# Altium footprint library STM Custom Shield for UAV.PcbLib: 9 footprints
Each footprint in its own frame and in the unit in brackets; x right, y up, seen from the top. Pads: shape width x height; smd on the part's side, far side on the other; paste and mask are expansions set on the pad; w line width, h text height; cw(c..) or ccw(c..) is an arc to the next point about the centre after c.
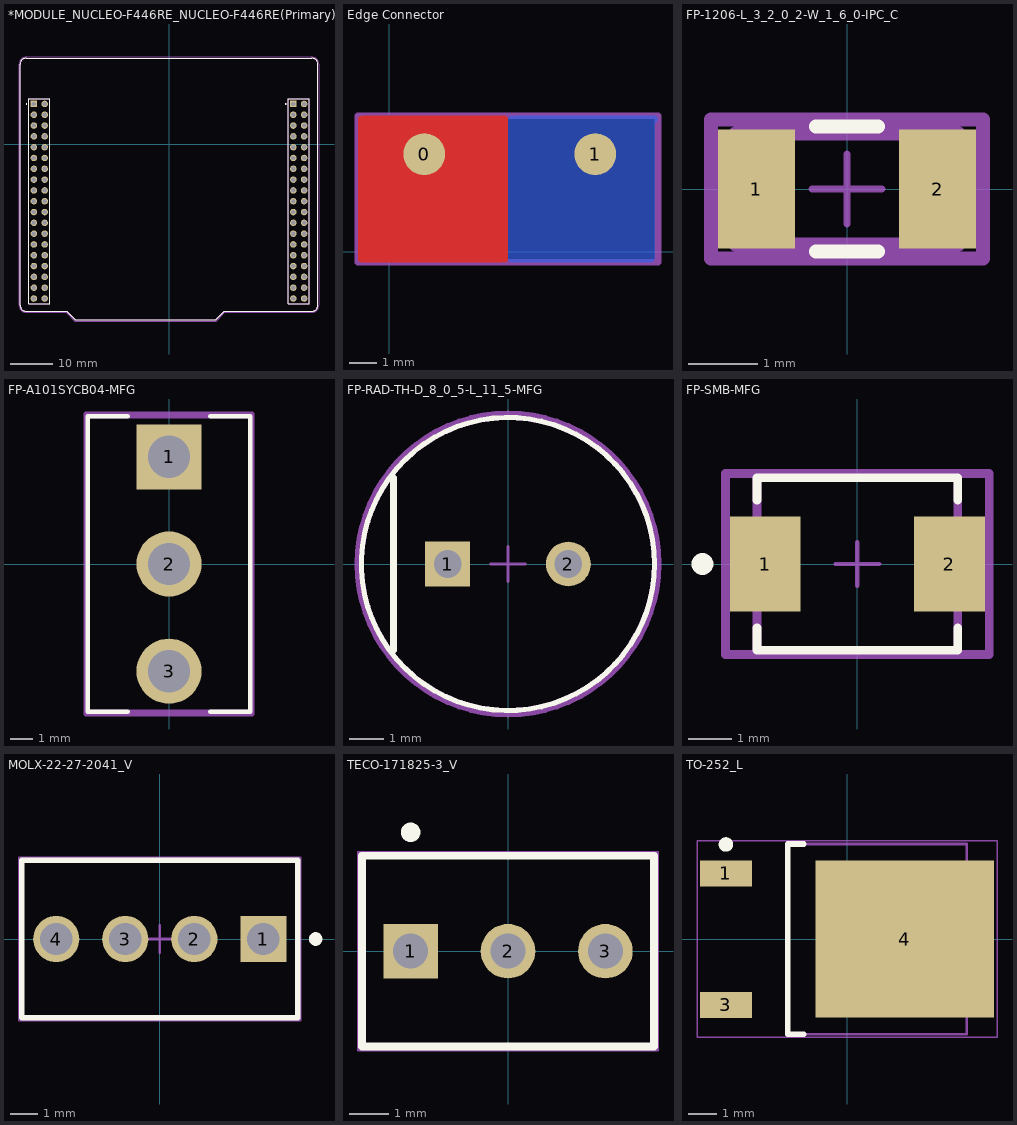
[diagram p0: the footprints below, top view; thin cyan lines are the x and y axes]

## *MODULE_NUCLEO-F446RE_NUCLEO-F446RE(Primary) [mm]
pads (76):
  rect 1.53x1.53 hole 1.02: CN7_1(-31.75,9.51) CN10_1(29.21,9.51)
  round 1.53 hole 1.02: CN7_2(-29.21,9.51) CN7_3(-31.75,6.97) CN7_4(-29.21,6.97) CN7_5(-31.75,4.43) CN7_6(-29.21,4.43) CN7_7(-31.75,1.89) CN7_8(-29.21,1.89) CN7_9(-31.75,-0.65) CN7_10(-29.21,-0.65) CN7_11(-31.75,-3.19) CN7_12(-29.21,-3.19) CN7_13(-31.75,-5.73) CN7_14(-29.21,-5.73) CN7_15(-31.75,-8.27) CN7_16(-29.21,-8.27) CN7_17(-31.75,-10.81) CN7_18(-29.21,-10.81) CN7_19(-31.75,-13.35) CN7_20(-29.21,-13.35) CN7_21(-31.75,-15.89) CN7_22(-29.21,-15.89) CN7_23(-31.75,-18.43) CN7_24(-29.21,-18.43) CN7_25(-31.75,-20.97) CN7_26(-29.21,-20.97) CN7_27(-31.75,-23.51) CN7_28(-29.21,-23.51) CN7_29(-31.75,-26.05) CN7_30(-29.21,-26.05) CN7_31(-31.75,-28.59) CN7_32(-29.21,-28.59) CN7_33(-31.75,-31.13) CN7_34(-29.21,-31.13) CN7_35(-31.75,-33.67) CN7_36(-29.21,-33.67) CN7_37(-31.75,-36.21) CN7_38(-29.21,-36.21) CN10_2(31.75,9.51) CN10_3(29.21,6.97) CN10_4(31.75,6.97) CN10_5(29.21,4.43) CN10_6(31.75,4.43) CN10_7(29.21,1.89) CN10_8(31.75,1.89) CN10_9(29.21,-0.65) CN10_10(31.75,-0.65) CN10_11(29.21,-3.19) CN10_12(31.75,-3.19) CN10_13(29.21,-5.73) CN10_14(31.75,-5.73) CN10_15(29.21,-8.27) CN10_16(31.75,-8.27) CN10_17(29.21,-10.81) CN10_18(31.75,-10.81) CN10_19(29.21,-13.35) CN10_20(31.75,-13.35) CN10_21(29.21,-15.89) CN10_22(31.75,-15.89) CN10_23(29.21,-18.43) CN10_24(31.75,-18.43) CN10_25(29.21,-20.97) CN10_26(31.75,-20.97) CN10_27(29.21,-23.51) CN10_28(31.75,-23.51) CN10_29(29.21,-26.05) CN10_30(31.75,-26.05) CN10_31(29.21,-28.59) CN10_32(31.75,-28.59) CN10_33(29.21,-31.13) CN10_34(31.75,-31.13) CN10_35(29.21,-33.67) CN10_36(31.75,-33.67) CN10_37(29.21,-36.21) CN10_38(31.75,-36.21)
Top Overlay:
  circle w0.2: c-33.5,9.51 r0.1
  circle w0.2: c27.46,9.51 r0.1
  lines w0.127: -35,18.79 -35,-37.75 ccw(c-33.5,-37.75) -33.5,-39.25 -24,-39.25 -22,-41.25 11,-41.25 13,-39.25 33.5,-39.25 ccw(c33.5,-37.75) 35,-37.75 35,18.79 ; -35,18.795 cw(c-33.5,18.795) -33.5,20.295 33.5,20.295 cw(c33.5,18.795) 35,18.795 ; -32.98,-37.48 -32.98,10.78 -27.98,10.78 -27.98,-37.48 -32.98,-37.48 ; 27.98,-37.48 27.98,10.78 32.98,10.78 32.98,-37.48 27.98,-37.48
Mechanical 4:
  circle w0.2: c-33.5,9.51 r0.1
  circle w0.2: c27.46,9.51 r0.1
  circle w0.2: c-33.5,9.51 r0.1
  circle w0.2: c27.46,9.51 r0.1
  lines w0.127: -35,-37.75 ccw(c-33.5,-37.75) -33.5,-39.25 ; -35,-37.75 ccw(c-33.5,-37.75) -33.5,-39.25 ; -35,-37.75 -35,18.79 -35,-37.75 ; -33.5,-39.25 -24,-39.25 ; -33.5,-39.25 -24,-39.25 ; -33.5,20.295 ccw(c-33.5,18.795) -35,18.795 cw(c-33.5,18.795) -33.5,20.295 ; -33.5,20.295 33.5,20.295 ; -33.5,20.295 33.5,20.295 ; -32.98,-37.48 -32.98,10.78 ; -32.98,-37.48 -27.98,-37.48 ; -32.98,-37.48 -32.98,10.78 ; -32.98,-37.48 -27.98,-37.48 ; -32.98,10.78 -27.98,10.78 ; -32.98,10.78 -27.98,10.78 ; -27.98,-37.48 -27.98,10.78 ; -27.98,-37.48 -27.98,10.78 ; -24,-39.25 -22,-41.25 ; -24,-39.25 -22,-41.25 ; -22,-41.25 11,-41.25 ; -22,-41.25 11,-41.25 ; 11,-41.25 13,-39.25 ; 11,-41.25 13,-39.25 ; 13,-39.25 33.5,-39.25 ; 13,-39.25 33.5,-39.25 ; 27.98,-37.48 27.98,10.78 ; 27.98,-37.48 32.98,-37.48 ; 27.98,-37.48 27.98,10.78 ; 27.98,-37.48 32.98,-37.48 ; 27.98,10.78 32.98,10.78 ; 27.98,10.78 32.98,10.78 ; 32.98,-37.48 32.98,10.78 ; 32.98,-37.48 32.98,10.78 ; 33.5,-39.25 ccw(c33.5,-37.75) 35,-37.75 ; 33.5,-39.25 ccw(c33.5,-37.75) 35,-37.75 ; 33.5,20.295 cw(c33.5,18.795) 35,18.795 ccw(c33.5,18.795) 33.5,20.295 ; 35,-37.75 35,18.79 35,-37.75
Top Component Center:
  lines w0.05: -35.25,18.79 -35.25,-37.75 ccw(c-33.5,-37.75) -33.5,-39.5 -24.125,-39.5 -22.125,-41.5 11.125,-41.5 13.125,-39.5 33.5,-39.5 ccw(c33.5,-37.75) 35.25,-37.75 35.25,18.79 ; -35.25,18.795 cw(c-33.5,18.795) -33.5,20.545 33.5,20.545 cw(c33.5,18.795) 35.25,18.795

## Edge Connector [mil]
pads (2):
  round 60 all layers, no hole: 0(50,140) 1(295,140)
Top Layer:
  region: -40,190 -40,-10 160,-10 165,-5 165,190
  lines w10: -40,190 -40,-10 160,-10 ; -35,190 165,190 165,140 165,60 165,25 165,-10
Bottom Layer:
  region: 175,190 175,-10 380,-10 380,190
  lines w10: 175,190 175,-10 375,-10 311.08,53.92 311.08,121.08 312.5,122.5 380,190 180,190
Board Shape:
  lines w10: -45,-15 385,-15 385,195 -45,195 -45,-15
3D body: height 300, standoff 21, extent -45,225 380,545
3D body: height 100, standoff 0, extent 210,40 325,255
3D body: height 100, standoff 0, extent 5,40 120,255
3D body: height 300, standoff 0, extent -42.5,230 382.5,545

## FP-1206-L_3_2_0_2-W_1_6_0-IPC_C [mil]
pads (2):
  rect 43.49x67.17 smd paste+0 mask+0: 1(-51.21,0) 2(51.21,0)
Top Overlay:
  lines w7.87: -17.66,-35.43 17.66,-35.43 ; -17.66,35.43 17.66,35.43
Top Assembly:
  lines w7.87: -76.89,-39.37 -76.89,39.37 76.89,39.37 76.89,-39.37 -76.89,-39.37
  text ".Designator" at 0,7.39 h39.37
Top 3D Body:
  lines w7.87: -62.99,-31.5 -62.99,31.5 62.99,31.5 62.99,-31.5 -62.99,-31.5
Top Courtyard:
  lines w7.87: -76.89,-39.37 -76.89,39.37 76.89,39.37 76.89,-39.37 -76.89,-39.37
Top Component Center:
  lines w3.94: -19.68,0 19.68,0 ; 0,-19.68 0,19.68
3D body "Cap_AVX_AP065L474JQT2A_eec.STEP": height 10, standoff 0, extent -76.89,-39.37 76.89,39.37

## FP-A101SYCB04-MFG [mil]
pads (3):
  rect 112.37x112.37 hole 73 paste-99999 mask+0: 1(0,185)
  round 112.37 hole 73 paste-99999 mask+0: 2(0,0) 3(0,-185)
Top Overlay:
  lines w7.87: -70.95,-255 -140,-255 -140,255 -70.95,255 ; 70.95,-255 140,-255 140,255 70.95,255
Top Assembly:
  lines w7.87: -143.94,-258.94 143.94,-258.94 143.94,258.94 -143.94,258.94 -143.94,-258.94
  text ".Designator" at 0,7.39 h39.37
Top 3D Body:
  lines w7.87: -140,-255 140,-255 140,255 -140,255 -140,-255
Top Courtyard:
  lines w7.87: -143.94,-258.94 143.94,-258.94 143.94,258.94 -143.94,258.94 -143.94,-258.94
Top Component Center:
  lines w3.94: -19.68,0 19.68,0 ; 0,-19.68 0,19.68
3D body "Switch_TE_Connectivity_A101SYCB04_eec.STEP": height 10, standoff 0, extent -143.94,-258.94 143.94,258.94

## FP-RAD-TH-D_8_0_5-L_11_5-MFG [mm]
pads (2):
  rect 1.3x1.3 hole 0.8 paste-2539.97 mask+0: 1(-1.75,0)
  round 1.3 hole 0.8 paste-2539.97 mask+0: 2(1.75,0)
Top Overlay:
  circle w0.15: c0,0 r4.25
  lines w0.2: -3.325,-2.5 -3.325,2.5
Top Assembly:
  text ".Designator" at 0,0.188 h1
Top 3D Body:
  circle w0.15: c0,0 r4.25
Top Courtyard:
  lines w0.2: -4.35,0 cw(c0,0) 4.35,0 cw(c0,0) -4.35,0
Top Component Center:
  lines w0.1: -0.5,0 0.5,0 ; 0,-0.5 0,0.5
3D body "Cap_Panasonic_EEUFK1V181_eec.STEP": height 0.25, standoff 0, extent -4.35,-4.35 4.35,4.35

## FP-SMB-MFG [mm]
pads (2):
  rect 1.62x2.18 smd paste+0 mask+0: 1(-2.11,0) 2(2.11,0)
Top Overlay:
  circle w0.25: c-3.55,0 r0.125
  lines w0.2: -2.3,-1.465 -2.3,-1.975 2.3,-1.975 2.3,-1.465 ; -2.3,1.465 -2.3,1.975 2.3,1.975 2.3,1.465
Top Assembly:
  lines w0.2: -3.02,-2.075 3.02,-2.075 3.02,2.075 -3.02,2.075 -3.02,-2.075
  text ".Designator" at 0,0.188 h1
Top 3D Body:
  lines w0.2: -2.3,-1.975 2.3,-1.975 2.3,1.975 -2.3,1.975 -2.3,-1.975
Top Courtyard:
  lines w0.2: -3.02,-2.075 3.02,-2.075 3.02,2.075 -3.02,2.075 -3.02,-2.075
Top Component Center:
  lines w0.1: -0.5,0 0.5,0 ; 0,-0.5 0,0.5
3D body "Diode_STMicroelectronics_SMBJ30A-TR_eec.STEP": height 0.25, standoff 0, extent -3.02,-2.075 3.02,2.075

## MOLX-22-27-2041_V [mm] "CONN, 4-Leads, Body 10.16x5.8mm, Pitch 2.54mm"
height 11.7
pads (4):
  rect 1.7x1.7 hole 1.19: 1(3.81,0)
  round 1.7 hole 1.19: 2(1.27,0) 3(-1.27,0) 4(-3.81,0)
Top Overlay:
  circle w0.25: c5.73,0 r0.125
  lines w0.2: -5.08,-2.9 5.08,-2.9 5.08,2.9 -5.08,2.9 -5.08,-2.9
Top 3D Body:
  lines w0.1: -5.08,-2.9 5.08,-2.9 5.08,2.9 -5.08,2.9 -5.08,-2.9
Top Courtyard:
  lines w0.05: -5.18,-3 -5.18,3 5.18,3 5.18,-3 -5.18,-3
  lines w0.1: -0.5,0 0.5,0 ; 0,-0.5 0,0.5
3D body "022272041.stp": height 11.7, standoff -3.56, extent -5.08,-2.9 5.08,2.9

## TECO-171825-3_V [mm] "Connector, 3-Leads, Body 4.9x7.5mm, Pitch 2.5mm"
height 10.4
pads (3):
  rect 1.4x1.4 hole 0.9: 1(-2.5,0)
  round 1.4 hole 0.9: 2(0,0) 3(2.5,0)
Top Overlay:
  circle w0.25: c-2.5,3.05 r0.125
  lines w0.2: -3.75,-2.45 -3.75,2.45 3.75,2.45 3.75,-2.45 -3.75,-2.45
Top 3D Body:
  lines w0.1: -3.75,-2.45 -3.75,2.45 3.75,2.45 3.75,-2.45 -3.75,-2.45
Top Courtyard:
  lines w0.05: -3.85,-2.55 3.85,-2.55 3.85,2.55 -3.85,2.55 -3.85,-2.55
  lines w0.1: -0.5,0 0.5,0 ; 0,-0.5 0,0.5
3D body "c-171825-3-y-3d.stp": height 10.4, standoff -3.6, extent -3.75,-2.4 3.75,2.5

## TO-252_L [mm] "D-PAK, 4-Leads, Body 6.1x6.5mm, Pitch 2.28mm, Lead Span 9.7mm, IPC High Density"
height 2.4
pads (3):
  rect 1.8x0.9 smd: 1(-4.2,2.28) 3(-4.2,-2.28)
  rect 6.2x5.45 smd: 4(2,0)
Top Overlay:
  circle w0.25: c-4.2,3.28 r0.125
  lines w0.2: -1.5,-3.3 -2.05,-3.3 -2.05,3.3 -1.5,3.3
Top 3D Body:
  lines w0.1: -2.05,-3.3 4.15,-3.3 4.15,3.3 -2.05,3.3 -2.05,-3.3
Top Courtyard:
  lines w0.05: -5.2,-3.4 5.2,-3.4 5.2,3.4 -5.2,3.4 -5.2,-3.4
  lines w0.1: -0.5,0 0.5,0 ; 0,-0.5 0,0.5
3D body: height 2.4, standoff 0, extent -2.05,-3.3 4.15,3.3